# Altium footprint library Power.PcbLib: 23 footprints (part 1 of 2)
Each footprint in its own frame and in the unit in brackets; x right, y up, seen from the top. Pads: shape width x height; smd on the part's side, far side on the other; paste and mask are expansions set on the pad; w line width, h text height; cw(c..) or ccw(c..) is an arc to the next point about the centre after c.
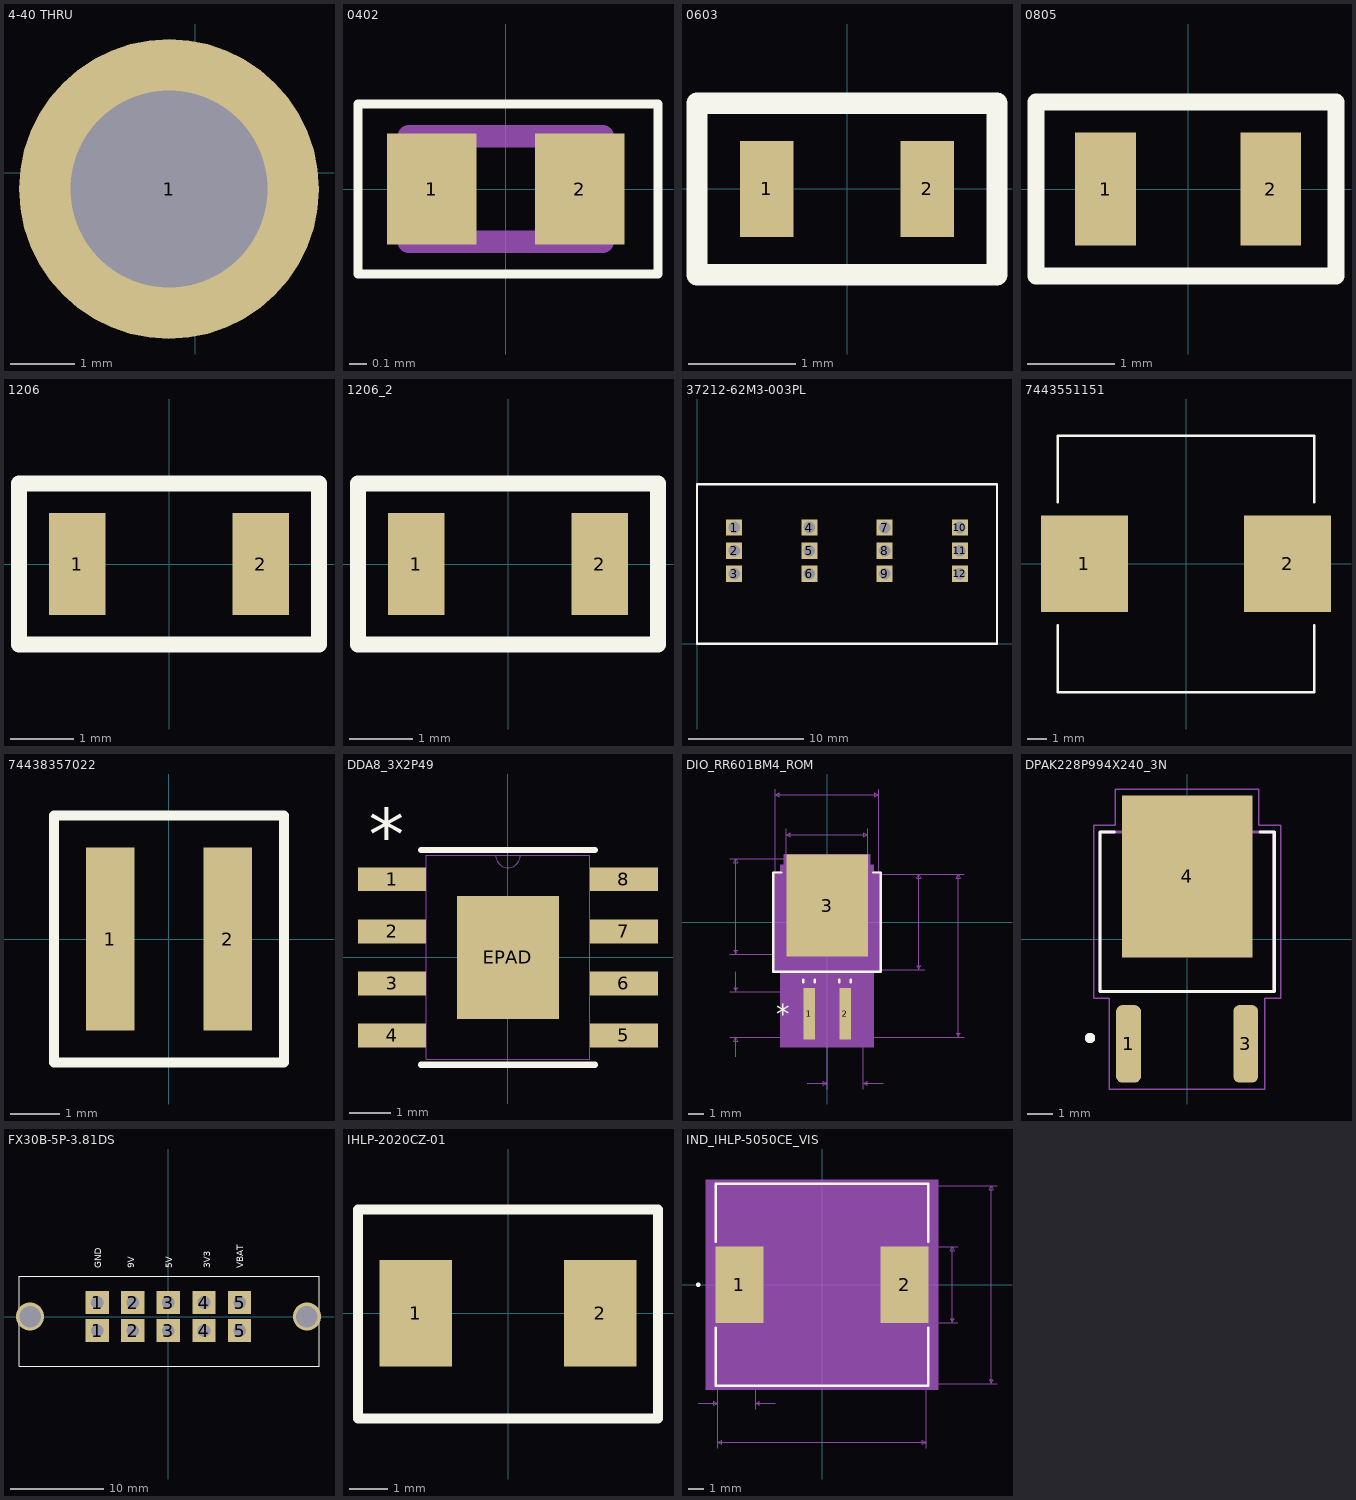
[diagram p0: the footprints below, top view; thin cyan lines are the x and y axes]

## 4-40 THRU [mil]
pads (1):
  round 183 hole 120: 1(-16,-10)

## 0402 [mm]
pads (2):
  rect 0.508x0.63 smd: 1(-0.42,0) 2(0.42,0)
Top Overlay:
  lines w0.05: -0.838,-0.483 0.864,-0.483 0.864,0.483 -0.838,0.483 -0.838,-0.483
Mechanical 4:
  lines w0.127: -0.55,-0.3 0.55,-0.3 ; -0.55,-0.3 -0.55,0.3 ; -0.55,-0.3 0.55,-0.3 ; -0.55,-0.3 -0.55,0.3 ; -0.55,0.3 0.55,0.3 ; -0.55,0.3 0.55,0.3 ; 0.55,-0.3 0.55,0.3 ; 0.55,-0.3 0.55,0.3
3D body "C0402.STEP": height 0.51, standoff 0.01, extent -0.5,-0.281 0.5,0.279

## 0603 [mm]
pads (2):
  rect 0.5x0.9 smd: 1(-0.75,0) 2(0.75,0)
Top Overlay:
  lines w0.2: -1.4,-0.8 1.4,-0.8 1.4,0.8 -1.4,0.8 -1.4,0 -1.4,-0.8
3D body "C0603.step": height 0.81, standoff 0.01, extent -0.8,-0.4 0.8,0.4

## 0805 [mm]
pads (2):
  rect 0.7x1.3 smd: 1(-0.95,0) 2(0.95,0)
Top Overlay:
  lines w0.2: -1.75,-1 -1.75,0 -1.75,1 1.7,1 1.7,-1 -1.75,-1
3D body "C0805.step": height 0.61, standoff 0.01, extent -1,-0.625 1,0.625

## 1206 [mil]
pads (2):
  rect 35x63 smd: 1(-57,0) 2(57,0)
Top Overlay:
  lines w10: -93,-50 93,-50 93,50 -93,50 -93,-50
3D body "C1206.STEP": height 63.49, standoff 0.5, extent -62.99,-31.99 62.99,31

## 1206_2 [mil]
pads (2):
  rect 35x63 smd: 1(-57,0) 2(57,0)
Top Overlay:
  lines w10: -93,-50 93,-50 93,50 -93,50 -93,-50
3D body "C1206.STEP": height 63.49, standoff 0.5, extent -62.99,-31.99 62.99,31

## 37212-62M3-003PL [mm]
pads (12):
  rect 1.398x1.398 hole 1: 1(3.2,10.05) 2(3.2,8.05) 3(3.2,6.05) 4(9.7,10.05) 5(9.7,8.05) 6(9.7,6.05) 7(16.2,10.05) 8(16.2,8.05) 9(16.2,6.05) 10(22.7,10.05) 11(22.7,8.05) 12(22.7,6.05)
Top Overlay:
  lines w0.203: 0,0 25.9,0 25.9,13.8 0,13.8 0,0
3D body "37212-62M3-003 PL_STEP.stp": height 13.01, standoff -2.59, extent -0.023,-0.095 25.877,13.705

## 7443551151 [mm]
pads (2):
  rect 4.5x5 smd: 1(-5.25,0) 2(5.25,0)
Top Overlay:
  lines w0.127: -6.629,-3.175 -6.629,-6.629 6.629,-6.629 6.629,-3.175 ; -6.629,3.175 -6.629,6.604 0,6.604 6.629,6.604 6.629,3.175
3D body "744355122.stp": height 6.21, standoff 0.01, extent -7.126,-6.375 7.074,6.425

## 74438357022 [mm]
pads (2):
  rect 0.98x3.7 smd: 1(-1.185,0) 2(1.185,0)
Top Overlay:
  lines w0.2: -2.325,-2.5 -2.325,0 -2.325,2.5 2.325,2.5 2.325,-2.5 -2.325,-2.5
3D body "74438357022.STEP": height 3.11, standoff 0.01, extent -2.05,-2.024 2.05,2.075

## DDA8_3X2P49 [mil]
pads (9):
  rect 65.5x23 smd paste+0 mask+0: 1(-111.25,75) 2(-111.25,25) 3(-111.25,-25) 4(-111.25,-75) 5(111.25,-75) 6(111.25,-25) 7(111.25,25) 8(111.25,75)
  rect 98x118 smd paste-58.5 mask+0: EPAD(0,0)
Top Overlay:
  lines w6: -83.5,-103 83.5,-103 ; -83.5,103 83.5,103
  text "*" at -133.75,93 h50
Top Paste:
  region: 45.06,-3.94 -45.06,-3.94 -45.06,-55.06 45.06,-55.06
  region: 45.06,55.06 -45.06,55.06 -45.06,3.94 45.06,3.94
Mechanical 13:
  lines w0: -12,98 ccw(c0,98) 12,98
  lines w1: -122,-84.5 -78.5,-84.5 -78.5,-65.5 -122,-65.5 -122,-84.5 ; -122,-34.5 -78.5,-34.5 -78.5,-15.5 -122,-15.5 -122,-34.5 ; -122,15.5 -78.5,15.5 -78.5,34.5 -122,34.5 -122,15.5 ; -122,65.5 -78.5,65.5 -78.5,84.5 -122,84.5 -122,65.5 ; -78.5,-98 -78.5,98 78.5,98 78.5,-98 -78.5,-98 ; 78.5,-84.5 122,-84.5 122,-65.5 78.5,-65.5 78.5,-84.5 ; 78.5,-34.5 122,-34.5 122,-15.5 78.5,-15.5 78.5,-34.5 ; 78.5,15.5 122,15.5 122,34.5 78.5,34.5 78.5,15.5 ; 78.5,65.5 122,65.5 122,84.5 78.5,84.5 78.5,65.5
  text "*" at -76,45 h50
3D body "DDA0008J.stp": height 58.37, standoff -3.44, extent -118.66,-96.45 118.66,96.46
3D body: height 10, standoff 0, extent 0,0 10,10

## DIO_RR601BM4_ROM [mil]
pads (3):
  rect 29x130 smd paste+0 mask+0: 1(-45.28,-230) 2(45.28,-230)
  rect 205x256 smd paste+0 mask+0: 3(0,42)
Top Overlay:
  lines w6: -115.6,125 -135,125 -135,-125 135,-125 135,125 115.6,125 ; -59.78,-151 -59.78,-144 ; -30.78,-151 -30.78,-144 ; 30.78,-151 30.78,-144 ; 59.78,-151 59.78,-144
  text "*" at -128.05,-255 h50
Mechanical 5:
  region: -117.5,145 117.5,145 117.5,-314 -117.5,-314
Mechanical 7:
  lines w1: -245,-289 0,-289 345,-289 ; -245,-175 0,-175 ; -245,-81 0,-81 ; -245,159 0,159 ; -230,-339 -230,-289 ; -230,-125 -230,-175 ; -130,0 -130,335 ; -102.5,0 -102.5,235 ; -50,-404.5 0,-404.5 ; 0,-419.5 0,-204.5 ; 0,-120 245,-120 ; 90.55,-419.5 90.55,-204.5 ; 102.5,0 102.5,235 ; 130,0 130,335 ; 140.55,-404.5 90.55,-404.5 ; 245,120 0,120 345,120 ; -230,-289 -235,-299 -225,-299 -230,-289 ; -230,-175 -235,-165 -225,-165 -230,-175 ; -230,-81 -230,159 ; -230,-81 -235,-71 -225,-71 -230,-81 ; -230,159 -235,149 -225,149 -230,159 ; -130,320 130,320 ; -130,320 -120,325 -120,315 -130,320 ; -102.5,220 102.5,220 ; -102.5,220 -92.5,225 -92.5,215 -102.5,220 ; 0,-404.5 -10,-399.5 -10,-409.5 0,-404.5 ; 90.55,-404.5 100.55,-399.5 100.55,-409.5 90.55,-404.5 ; 102.5,220 92.5,225 92.5,215 102.5,220 ; 130,320 120,325 120,315 130,320 ; 230,-120 230,120 ; 230,-120 225,-110 235,-110 230,-120 ; 230,120 225,110 235,110 230,120 ; 330,-289 330,120 ; 330,-289 325,-279 335,-279 330,-289 ; 330,120 325,110 335,110 330,120
  text "Default Padstyle: RX29Y130D0T" at -362.5,-639 h50
  text "Large Padstyle: RX205Y256D0T" at -350,-714 h50
  text "Alt 1 Padstyle: OX60Y90D30P" at -337.5,-789 h50
  text "Alt 2 Padstyle: OX90Y60D30P" at -337.5,-864 h50
  text "0.24in/6.096mm" at 250,-12.5 h25
  text "0.24in/6.096mm" at -425,26.5 h25
  text "0.26in/6.604mm" at -87.5,340 h25
  text "0.205in/5.207mm" at -93.75,240 h25
  text "0.409in/10.389mm" at 350,-122.5 h25
  text "0.114in/2.896mm" at -437.5,-244.5 h25
  text "0.091in/2.3mm" at -35.97,-449.5 h25
Mechanical 13:
  lines w1: -130,-120 130,-120 130,120 -130,120 -130,-120 ; -59.78,-289 -59.78,-120 -30.78,-120 -30.78,-289 -59.78,-289 ; 30.78,-289 30.78,-120 59.78,-120 59.78,-289 30.78,-289
  text "*" at -57.78,-135 h50
Mechanical 15:
  region: -134,-124 -134,124 -106.5,124 -106.5,169 106.5,169 106.5,124 134,124 134,-124 53.28,-124 53.28,-299 -53.28,-299 -53.28,-124
  lines w6: -134,-124 -134,124 -106.5,124 -106.5,169 106.5,169 106.5,124 134,124 134,-124 53.28,-124 53.28,-299 -53.28,-299 -53.28,-124 -134,-124
3D body: height 10, standoff 0, extent 0,0 10,10

## DPAK228P994X240_3N [mm]
pads (3):
  rrect50% 0.97x3.02 smd: 1(-2.286,-4.09) 3(2.286,-4.09)
  rect 5.09x6.32 smd paste-4: 4(0,2.44)
Top Overlay:
  circle w0.2: c-3.786,-3.861 r0.1
  lines w0.127: -2.846,4.176 -3.4,4.176 -3.4,-2.044 3.4,-2.044 3.4,4.176 2.846,4.176
Top Paste:
  region: 2.13,1.66 0.41,1.66 0.41,3.22 2.13,3.22
  region: -0.41,1.66 -2.13,1.66 -2.13,3.22 -0.41,3.22
  region: 2.13,3.77 0.41,3.77 0.41,5.33 2.13,5.33
  region: -0.41,3.77 -2.13,3.77 -2.13,5.33 -0.41,5.33
  region: 2.13,-0.45 0.41,-0.45 0.41,1.11 2.13,1.11
  region: -0.41,-0.45 -2.13,-0.45 -2.13,1.11 -0.41,1.11
Mechanical 13:
  circle w0.2: c-3.786,-3.861 r0.1
  lines w0.127: -3.4,-2.044 3.4,-2.044 3.4,4.176 -3.4,4.176 -3.4,-2.044
Mechanical 15:
  lines w0.05: -3.65,-2.32 -3.03,-2.32 -3.03,-5.85 3.03,-5.85 3.03,-2.32 3.65,-2.32 3.65,4.43 2.8,4.43 2.8,5.85 -2.8,5.85 -2.8,4.43 -3.65,4.43 -3.65,-2.32

## DPAK_H12G-TR_STM [mm]

## FX30B-5P-3.81DS [mm]
pads (10):
  rect 2.5x2.5 hole 1.35: 1(-7.62,-1.5) 1(-7.62,1.5) 2(-3.81,-1.5) 2(-3.81,1.5) 3(0,-1.5) 3(0,1.5) 4(3.81,-1.5) 4(3.81,1.5) 5(7.62,-1.5) 5(7.62,1.5)
via -14.82,0 diameter 3 hole 2.3
via 14.82,0 diameter 3 hole 2.3
Top Overlay:
  lines w0.127: -8.509,4.318 16.129,4.318 16.129,-5.334 -16.002,-5.334 -16.002,4.318 -8.382,4.318
  text "GND" at -7.212,5.18 h0.7
  text "9V" at -3.656,5.18 h0.7
  text "5V" at 0.408,5.18 h0.7
  text "3V3" at 4.472,5.18 h0.7
  text "VBAT" at 8.028,5.18 h0.7
3D body "FX30B-5P-3.81DS.STEP": height 11.02, standoff -3.29, extent -15.947,-16.034 16.048,4.166

## IHLP-2020CZ-01 [mil]
pads (2):
  rect 75x110 smd: 1(-95.5,0) 2(95.5,0)
Top Overlay:
  lines w10: -155,-109 155,-109 155,107 -155,107 -155,-109
3D body "IND_IHLP-2020CZ.step": height 120, standoff 0, extent -108.99,-107 117,107.01

## IND_IHLP-5050CE_VIS [mil]
pads (2):
  rect 123x195 smd paste+0 mask+0: 1(-212,0) 2(212,0)
Top Overlay:
  circle w6: c-317.5,0 r3
  lines w6: -272.5,-110.6 -272.5,-259 272.5,-259 272.5,-110.6 ; -272.5,110.6 -272.5,259 272.5,259 272.5,110.6
Mechanical 5:
  region: 298.5,-269 -298.5,-269 -298.5,269 298.5,269
Mechanical 7:
  lines w1: -317.5,-304 -267.5,-304 ; -267.5,-419 -267.5,0 -267.5,-319 ; -170.5,-319 -170.5,0 ; -120.5,-304 -170.5,-304 ; 267.5,-419 267.5,0 ; 283.5,-254 448.5,-254 ; 283.5,-97.5 348.5,-97.5 ; 283.5,97.5 348.5,97.5 ; 283.5,254 448.5,254 ; -267.5,-404 267.5,-404 ; -267.5,-404 -257.5,-399 -257.5,-409 -267.5,-404 ; -267.5,-304 -277.5,-299 -277.5,-309 -267.5,-304 ; -170.5,-304 -160.5,-299 -160.5,-309 -170.5,-304 ; 267.5,-404 257.5,-399 257.5,-409 267.5,-404 ; 333.5,-97.5 333.5,97.5 ; 333.5,-97.5 328.5,-87.5 338.5,-87.5 333.5,-97.5 ; 333.5,97.5 328.5,87.5 338.5,87.5 333.5,97.5 ; 433.5,-254 433.5,254 ; 433.5,-254 428.5,-244 438.5,-244 433.5,-254 ; 433.5,254 428.5,244 438.5,244 433.5,254
  text "Default Padstyle: RX123Y195D0T" at -375,-529 h50
  text "Alt 1 Padstyle: OX60Y90D30P" at -337.5,-604 h50
  text "Alt 2 Padstyle: OX90Y60D30P" at -337.5,-679 h50
  text "0.195in/4.953mm" at 353.5,-12.5 h25
  text "0.508in/12.903mm" at 453.5,-12.5 h25
  text "0.535in/13.589mm" at -100,-449 h25
  text "0.097in/2.464mm" at -312.75,-349 h25
Mechanical 13:
  circle w0: c-247.5,0 r3
  lines w1: -267.5,-254 267.5,-254 267.5,254 -267.5,254 -267.5,-254
Mechanical 15:
  region: -277.5,-107.5 -283.5,-107.5 -283.5,107.5 -277.5,107.5 -277.5,264 277.5,264 277.5,107.5 283.5,107.5 283.5,-107.5 277.5,-107.5 277.5,-264 -277.5,-264
  lines w6: -283.5,-107.5 -283.5,107.5 -277.5,107.5 -277.5,264 277.5,264 277.5,107.5 283.5,107.5 283.5,-107.5 277.5,-107.5 277.5,-264 -277.5,-264 -277.5,-107.5 -283.5,-107.5
3D body: height 10, standoff 0, extent 0,0 10,10